# EAGLE library part SI5238* (library Silicon Labs)
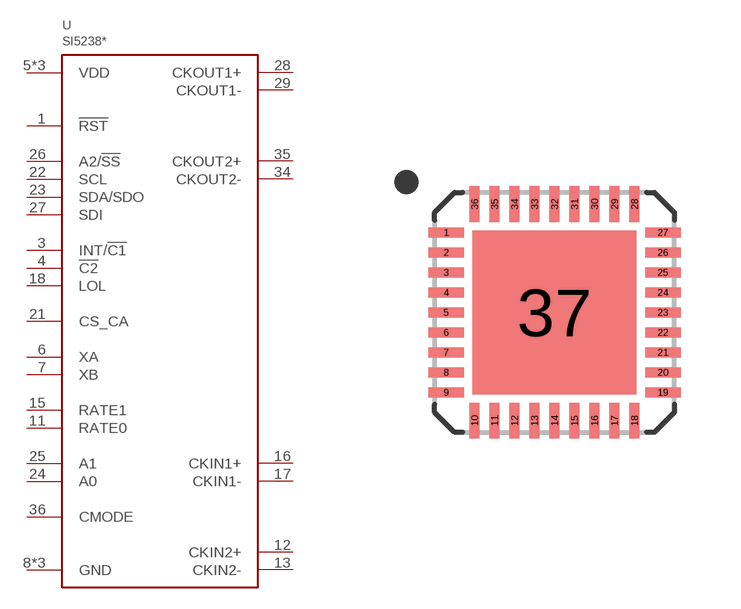
[diagram p10: symbol with the pads of QFN36; footprint QFN36]

Designator prefix U

## SI5238B, SI5238C  [QFN36]
1  !RST
3  INT/!C1
4  !C2
5  VDD
6  XA
7  XB
8  GND
10  VDD
11  RATE0
12  CKIN2+
13  CKIN2-
15  RATE1
16  CKIN1+
17  CKIN1-
18  LOL
21  CS_CA
22  SCL
23  SDA/SDO
24  A0
25  A1
26  A2/!SS
27  SDI
28  CKOUT1+
29  CKOUT1-
31  GND
32  VDD
34  CKOUT2-
35  CKOUT2+
36  CMODE
37  GND

## Footprint QFN36 (pad centres in mm)
smd 0.89 x 0.25: 1 -2.71,2; 2 -2.71,1.5; 3 -2.71,1; 4 -2.71,0.5; 5 -2.71,0; 6 -2.71,-0.5; 7 -2.71,-1; 8 -2.71,-1.5; 9 -2.71,-2; 19 2.71,-2; 20 2.71,-1.5; 21 2.71,-1; 22 2.71,-0.5; 23 2.71,0; 24 2.71,0.5; 25 2.71,1; 26 2.71,1.5; 27 2.71,2
smd 0.25 x 0.89: 10 -2,-2.71; 11 -1.5,-2.71; 12 -1,-2.71; 13 -0.5,-2.71; 14 0,-2.71; 15 0.5,-2.71; 16 1,-2.71; 17 1.5,-2.71; 18 2,-2.71; 28 2,2.71; 29 1.5,2.71; 30 1,2.71; 31 0.5,2.71; 32 0,2.71; 33 -0.5,2.71; 34 -1,2.71; 35 -1.5,2.71; 36 -2,2.71
smd 4.1 x 4.1: 37 0,0